# Altium schematic symbol library 2T841А9.Schlib: 1 symbol
Pins are listed as number, name and electrical type; pins without a type are passive.

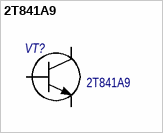
[diagram p0: symbol 2T841А9]

## 2T841А9
designator VT?  Наименование: 2Т841А9  (hidden comment: 2T841А9)
Кремниевый биполярный / эпитаксиально-планарный / n-p-n транзистор Высоковольтный, до 600В; Назначение: Биполярный транзистор; Потребление, Вт: 0,0; ComponentLink1Description: DataSheet; ComponentLink1URL: http://www.kontest.ru/datasheet/unkn0wn/2t841a.pdf
footprint KT-94
pins: 1 EMITTER, 2 BASE, 3 COLLECTOR